# Altium schematic symbol library Schlib_MolexConnectors.SchLib: 61 symbols
Pins are listed as number, name and electrical type; pins without a type are passive.

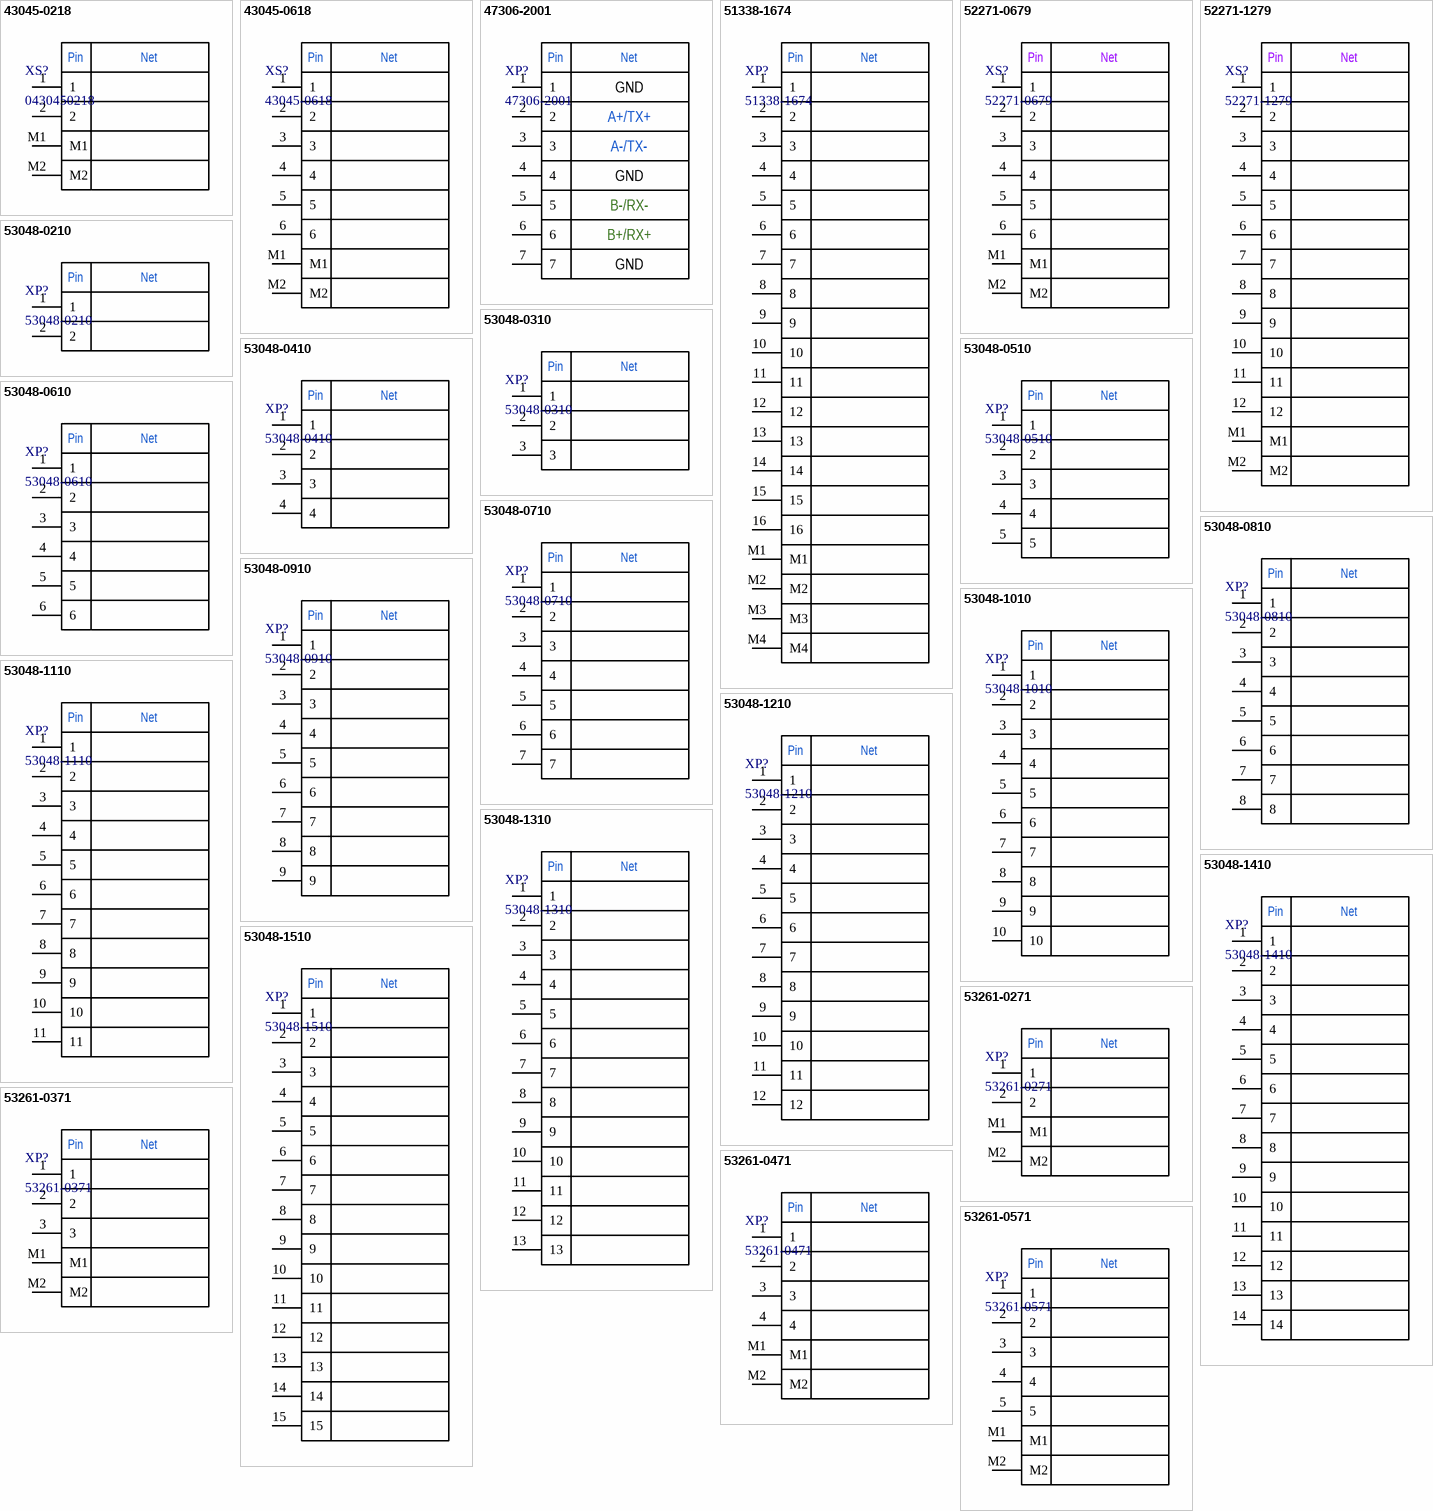
[diagram p0: symbols 43045-0218 to 53261-0571]

## 43045-0218
designator XS?, comment 0430450218
Micro-Fit 3.0 Vertical Header, 3.00mm Pitch; Manufacturer: Molex; Part Number: 0430450218
footprint 43045-0218
pins: 1, 2, M1, M2
text: Pin; Net

## 43045-0618
designator XS?
Micro-Fit 3.0 Vertical Header, 3.00mm Pitch; Manufacturer: Molex; Part Number: 43045-0618
footprint 43045-0618
pins: 1, 2, 3, 4, 5, 6, M1, M2
text: Pin; Net

## 47306-2001
designator XP?
SATA 7-pin; Manufacturer: Molex; Part Number: 47306-2001
footprint 47306-2001
pins: 1, 2, 3, 4, 5, 6, 7
text: Pin; Net; GND; A+/TX+; A-/TX-; B-/RX-; B+/RX+

## 51338-1674
designator XP?
0.4 B-TO-B CONN. H = 1.5 / 2.0; Manufacturer: Molex; Part Number: 51338-1674
footprint 51338-1674
pins: 1, 2, 3, 4, 5, 6, 7, 8, 9, 10, 11, 12, 13, 14, 15, 16, M1, M2, M3, M4
text: Pin; Net

## 52271-0679
designator XS?
FFC/FPC Connector, 1.00mm Pitch, 3.00mm Height, 6 Circuits, Tin-Bismuth Plating; Manufacturer: Molex; Part Number: 52271-0679
footprint 52271-0679 (FFC/FPC Connector, 1.00mm Pitch, Slider Series, Right-Angle, Bottom Contact, 3.00mm Height, 6 Circuits, Tin-Bismuth Plating)
pins: 1, 2, 3, 4, 5, 6, M1, M2
text: Pin; Net

## 52271-1279
designator XS?
FFC/FPC Connector, 1.00mm Pitch, 3.00mm Height, 12 Circuits, Tin-Bismuth Plating; Manufacturer: Molex; Part Number: 52271-1279
footprint 52271-1279 (FFC/FPC Connector, 1.00mm Pitch, Slider Series, Right-Angle, Bottom Contact, 3.00mm Height, 6 Circuits, Tin-Bismuth Plating)
pins: 1, 2, 3, 4, 5, 6, 7, 8, 9, 10, 11, 12, M1, M2
text: Pin; Net

## 53048-0210
designator XP?
1.25mm Pitch, PicoBlade PCB Header; Manufacturer: Molex; Part Number: 53048-0210
footprint 53048-0210
pins: 1, 2
text: Pin; Net

## 53048-0310
designator XP?
1.25mm Pitch, PicoBlade PCB Header; Manufacturer: Molex; Part Number: 53048-0310
footprint 53048-0310
pins: 1, 2, 3
text: Pin; Net

## 53048-0410
designator XP?
1.25mm Pitch, PicoBlade PCB Header; Manufacturer: Molex; Part Number: 53048-0410
footprint 53048-0410
pins: 1, 2, 3, 4
text: Pin; Net

## 53048-0510
designator XP?
1.25mm Pitch, PicoBlade PCB Header; Manufacturer: Molex; Part Number: 53048-0510
footprint 53048-0510
pins: 1, 2, 3, 4, 5
text: Pin; Net

## 53048-0610
designator XP?
1.25mm Pitch, PicoBlade PCB Header; Manufacturer: Molex; Part Number: 53048-0610
footprint 53048-0610
pins: 1, 2, 3, 4, 5, 6
text: Pin; Net

## 53048-0710
designator XP?
1.25mm Pitch, PicoBlade PCB Header; Manufacturer: Molex; Part Number: 53048-0710
footprint 53048-0710
pins: 1, 2, 3, 4, 5, 6, 7
text: Pin; Net

## 53048-0810
designator XP?
1.25mm Pitch, PicoBlade PCB Header; Manufacturer: Molex; Part Number: 53048-0810
footprint 53048-0810
pins: 1, 2, 3, 4, 5, 6, 7, 8
text: Pin; Net

## 53048-0910
designator XP?
1.25mm Pitch, PicoBlade PCB Header; Manufacturer: Molex; Part Number: 53048-0910
footprint 53048-0910
pins: 1, 2, 3, 4, 5, 6, 7, 8, 9
text: Pin; Net

## 53048-1010
designator XP?
1.25mm Pitch, PicoBlade PCB Header; Manufacturer: Molex; Part Number: 53048-1010
footprint 53048-1010
pins: 1, 2, 3, 4, 5, 6, 7, 8, 9, 10
text: Pin; Net

## 53048-1110
designator XP?
1.25mm Pitch, PicoBlade PCB Header; Manufacturer: Molex; Part Number: 53048-1110
footprint 53048-1110
pins: 1, 2, 3, 4, 5, 6, 7, 8, 9, 10, 11
text: Pin; Net

## 53048-1210
designator XP?
1.25mm Pitch, PicoBlade PCB Header; Manufacturer: Molex; Part Number: 53048-1210
footprint 53048-1210
pins: 1, 2, 3, 4, 5, 6, 7, 8, 9, 10, 11, 12
text: Pin; Net

## 53048-1310
designator XP?
1.25mm Pitch, PicoBlade PCB Header; Manufacturer: Molex; Part Number: 53048-1310
footprint 53048-1310
pins: 1, 2, 3, 4, 5, 6, 7, 8, 9, 10, 11, 12, 13
text: Pin; Net

## 53048-1410
designator XP?
1.25mm Pitch, PicoBlade PCB Header; Manufacturer: Molex; Part Number: 53048-1410
footprint 53048-1410
pins: 1, 2, 3, 4, 5, 6, 7, 8, 9, 10, 11, 12, 13, 14
text: Pin; Net

## 53048-1510
designator XP?
1.25mm Pitch, PicoBlade PCB Header; Manufacturer: Molex; Part Number: 53048-1510
footprint 53048-1510
pins: 1, 2, 3, 4, 5, 6, 7, 8, 9, 10, 11, 12, 13, 14, 15
text: Pin; Net

## 53261-0271
designator XP?
1.25mm Pitch, PicoBlade PCB Header; Manufacturer: Molex; AltManufacturer: Connfly; Alternative: DS1020-02-02MVT1R; Part Number: 53261-0271
footprint 53261-0271
pins: 1, 2, M1, M2
text: Pin; Net

## 53261-0371
designator XP?
1.25mm Pitch, PicoBlade PCB Header; Manufacturer: Molex; AltManufacturer: Connfly; Alternative: DS1020-02-03MVT1R; Part Number: 53261-0371
footprint 53261-0371
pins: 1, 2, 3, M1, M2
text: Pin; Net

## 53261-0471
designator XP?
1.25mm Pitch, PicoBlade PCB Header; Manufacturer: Molex; AltManufacturer: Connfly; Alternative: DS1020-02-04MVT1R; Part Number: 53261-0471
footprint 53261-0471
pins: 1, 2, 3, 4, M1, M2
text: Pin; Net

## 53261-0571
designator XP?
1.25mm Pitch, PicoBlade PCB Header; Manufacturer: Molex; AltManufacturer: Connfly; Alternative: DS1020-02-05MVT1R; Part Number: 53261-0571
footprint 53261-0571
pins: 1, 2, 3, 4, 5, M1, M2
text: Pin; Net

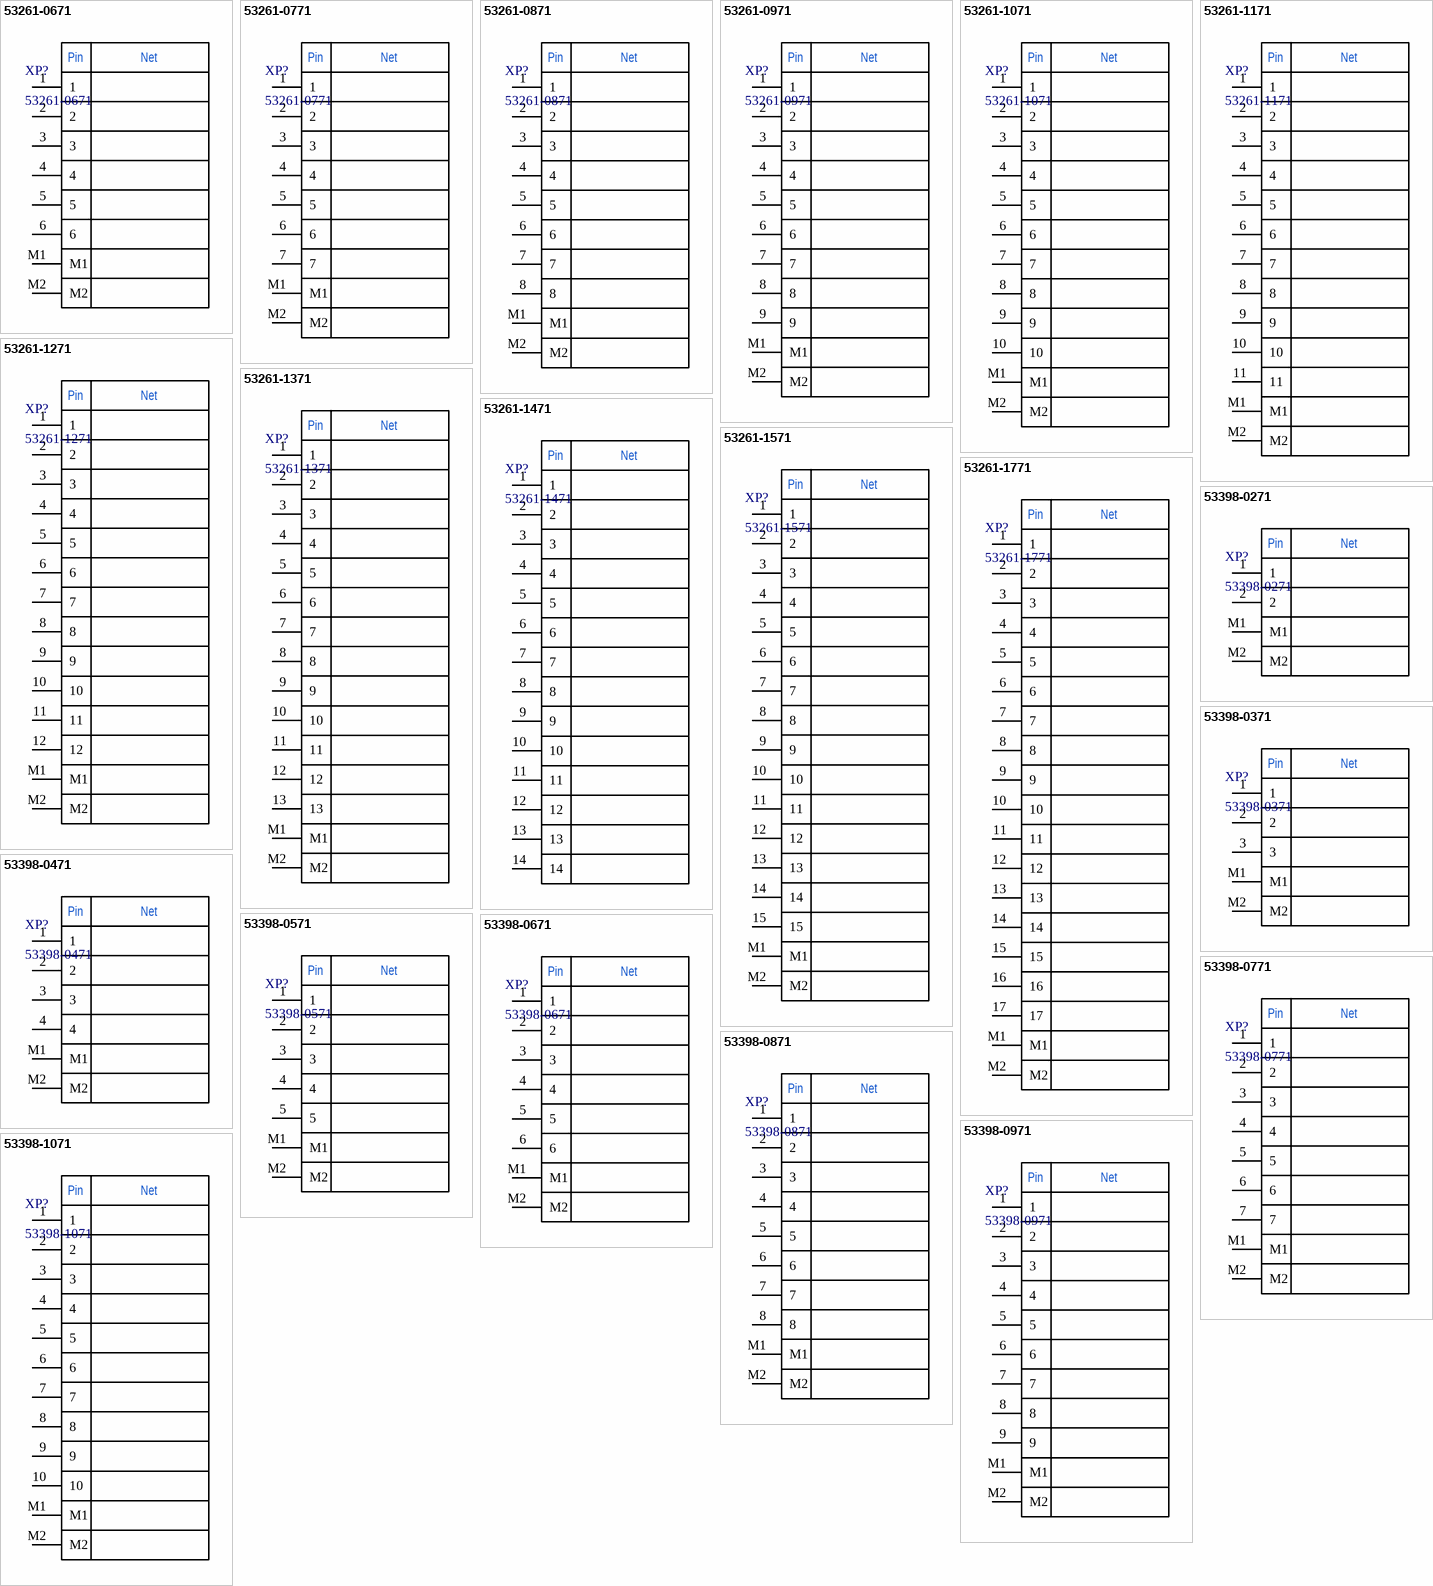
[diagram p1: symbols 53261-0671 to 53398-1071]

## 53261-0671
designator XP?
1.25mm Pitch, PicoBlade PCB Header; Manufacturer: Molex; AltManufacturer: Connfly; Alternative: DS1020-02-06MVT1R; Part Number: 53261-0671
footprint 53261-0671
pins: 1, 2, 3, 4, 5, 6, M1, M2
text: Pin; Net

## 53261-0771
designator XP?
1.25mm Pitch, PicoBlade PCB Header; Manufacturer: Molex; AltManufacturer: Connfly; Alternative: DS1020-02-07MVT1R; Part Number: 53261-0771
footprint 53261-0771
pins: 1, 2, 3, 4, 5, 6, 7, M1, M2
text: Pin; Net

## 53261-0871
designator XP?
1.25mm Pitch, PicoBlade PCB Header; Manufacturer: Molex; AltManufacturer: Connfly; Alternative: DS1020-02-08MVT1R; Part Number: 53261-0871
footprint 53261-0871
pins: 1, 2, 3, 4, 5, 6, 7, 8, M1, M2
text: Pin; Net

## 53261-0971
designator XP?
1.25mm Pitch, PicoBlade PCB Header; Manufacturer: Molex; Part Number: 53261-0971
footprint 53261-0971
pins: 1, 2, 3, 4, 5, 6, 7, 8, 9, M1, M2
text: Pin; Net

## 53261-1071
designator XP?
1.25mm Pitch, PicoBlade PCB Header; Manufacturer: Molex; AltManufacturer: Connfly; Alternative: DS1020-02-10MVT1R; Part Number: 53261-1071
footprint 53261-1071
pins: 1, 2, 3, 4, 5, 6, 7, 8, 9, 10, M1, M2
text: Pin; Net

## 53261-1171
designator XP?
1.25mm Pitch, PicoBlade PCB Header; Manufacturer: Molex; Part Number: 53261-1171
footprint 53261-1171
pins: 1, 2, 3, 4, 5, 6, 7, 8, 9, 10, 11, M1, M2
text: Pin; Net

## 53261-1271
designator XP?
1.25mm Pitch, PicoBlade PCB Header; Manufacturer: Molex; AltManufacturer: Connfly; Alternative: DS1020-02-12MVT1R; Part Number: 53261-1271
footprint 53261-1271
pins: 1, 2, 3, 4, 5, 6, 7, 8, 9, 10, 11, 12, M1, M2
text: Pin; Net

## 53261-1371
designator XP?
1.25mm Pitch, PicoBlade PCB Header; Manufacturer: Molex; Part Number: 53261-1371
footprint 53261-1371
pins: 1, 2, 3, 4, 5, 6, 7, 8, 9, 10, 11, 12, 13, M1, M2
text: Pin; Net

## 53261-1471
designator XP?
1.25mm Pitch, PicoBlade PCB Header; Manufacturer: Molex; Part Number: 53261-1471
footprint 53261-1471
pins: 1, 2, 3, 4, 5, 6, 7, 8, 9, 10, 11, 12, 13, 14
text: Pin; Net

## 53261-1571
designator XP?
1.25mm Pitch, PicoBlade PCB Header; Manufacturer: Molex; Part Number: 53261-1571
footprint 53261-1571
pins: 1, 2, 3, 4, 5, 6, 7, 8, 9, 10, 11, 12, 13, 14, 15, M1, M2
text: Pin; Net

## 53261-1771
designator XP?
1.25mm Pitch, PicoBlade PCB Header; Manufacturer: Molex; Part Number: 53261-1771
footprint 53261-1771
pins: 1, 2, 3, 4, 5, 6, 7, 8, 9, 10, 11, 12, 13, 14, 15, 16, 17, M1, M2
text: Pin; Net

## 53398-0271
designator XP?
1.25mm Pitch, PicoBlade PCB Header; Manufacturer: Molex; Part Number: 53398-0271
footprint 53398-0271
pins: 1, 2, M1, M2
text: Pin; Net

## 53398-0371
designator XP?
1.25mm Pitch, PicoBlade PCB Header; Manufacturer: Molex; Part Number: 53398-0371
footprint 53398-0371
pins: 1, 2, 3, M1, M2
text: Pin; Net

## 53398-0471
designator XP?
1.25mm Pitch, PicoBlade PCB Header; Manufacturer: Molex; Part Number: 53398-0471
footprint 53398-0471
pins: 1, 2, 3, 4, M1, M2
text: Pin; Net

## 53398-0571
designator XP?
1.25mm Pitch, PicoBlade PCB Header; Manufacturer: Molex; Part Number: 53398-0571
footprint 53398-0571
pins: 1, 2, 3, 4, 5, M1, M2
text: Pin; Net

## 53398-0671
designator XP?
1.25mm Pitch, PicoBlade PCB Header; Manufacturer: Molex; Part Number: 53398-0671
footprint 53398-0671
pins: 1, 2, 3, 4, 5, 6, M1, M2
text: Pin; Net

## 53398-0771
designator XP?
1.25mm Pitch, PicoBlade PCB Header; Manufacturer: Molex; Part Number: 53398-0771
footprint 53398-0771
pins: 1, 2, 3, 4, 5, 6, 7, M1, M2
text: Pin; Net

## 53398-0871
designator XP?
1.25mm Pitch, PicoBlade PCB Header; Manufacturer: Molex; Part Number: 53398-0871
footprint 53398-0871
pins: 1, 2, 3, 4, 5, 6, 7, 8, M1, M2
text: Pin; Net

## 53398-0971
designator XP?
1.25mm Pitch, PicoBlade PCB Header; Manufacturer: Molex; Part Number: 53398-0971
footprint 53398-0971
pins: 1, 2, 3, 4, 5, 6, 7, 8, 9, M1, M2
text: Pin; Net

## 53398-1071
designator XP?
1.25mm Pitch, PicoBlade PCB Header; Manufacturer: Molex; Part Number: 53398-1071
footprint 53398-1071
pins: 1, 2, 3, 4, 5, 6, 7, 8, 9, 10, M1, M2
text: Pin; Net

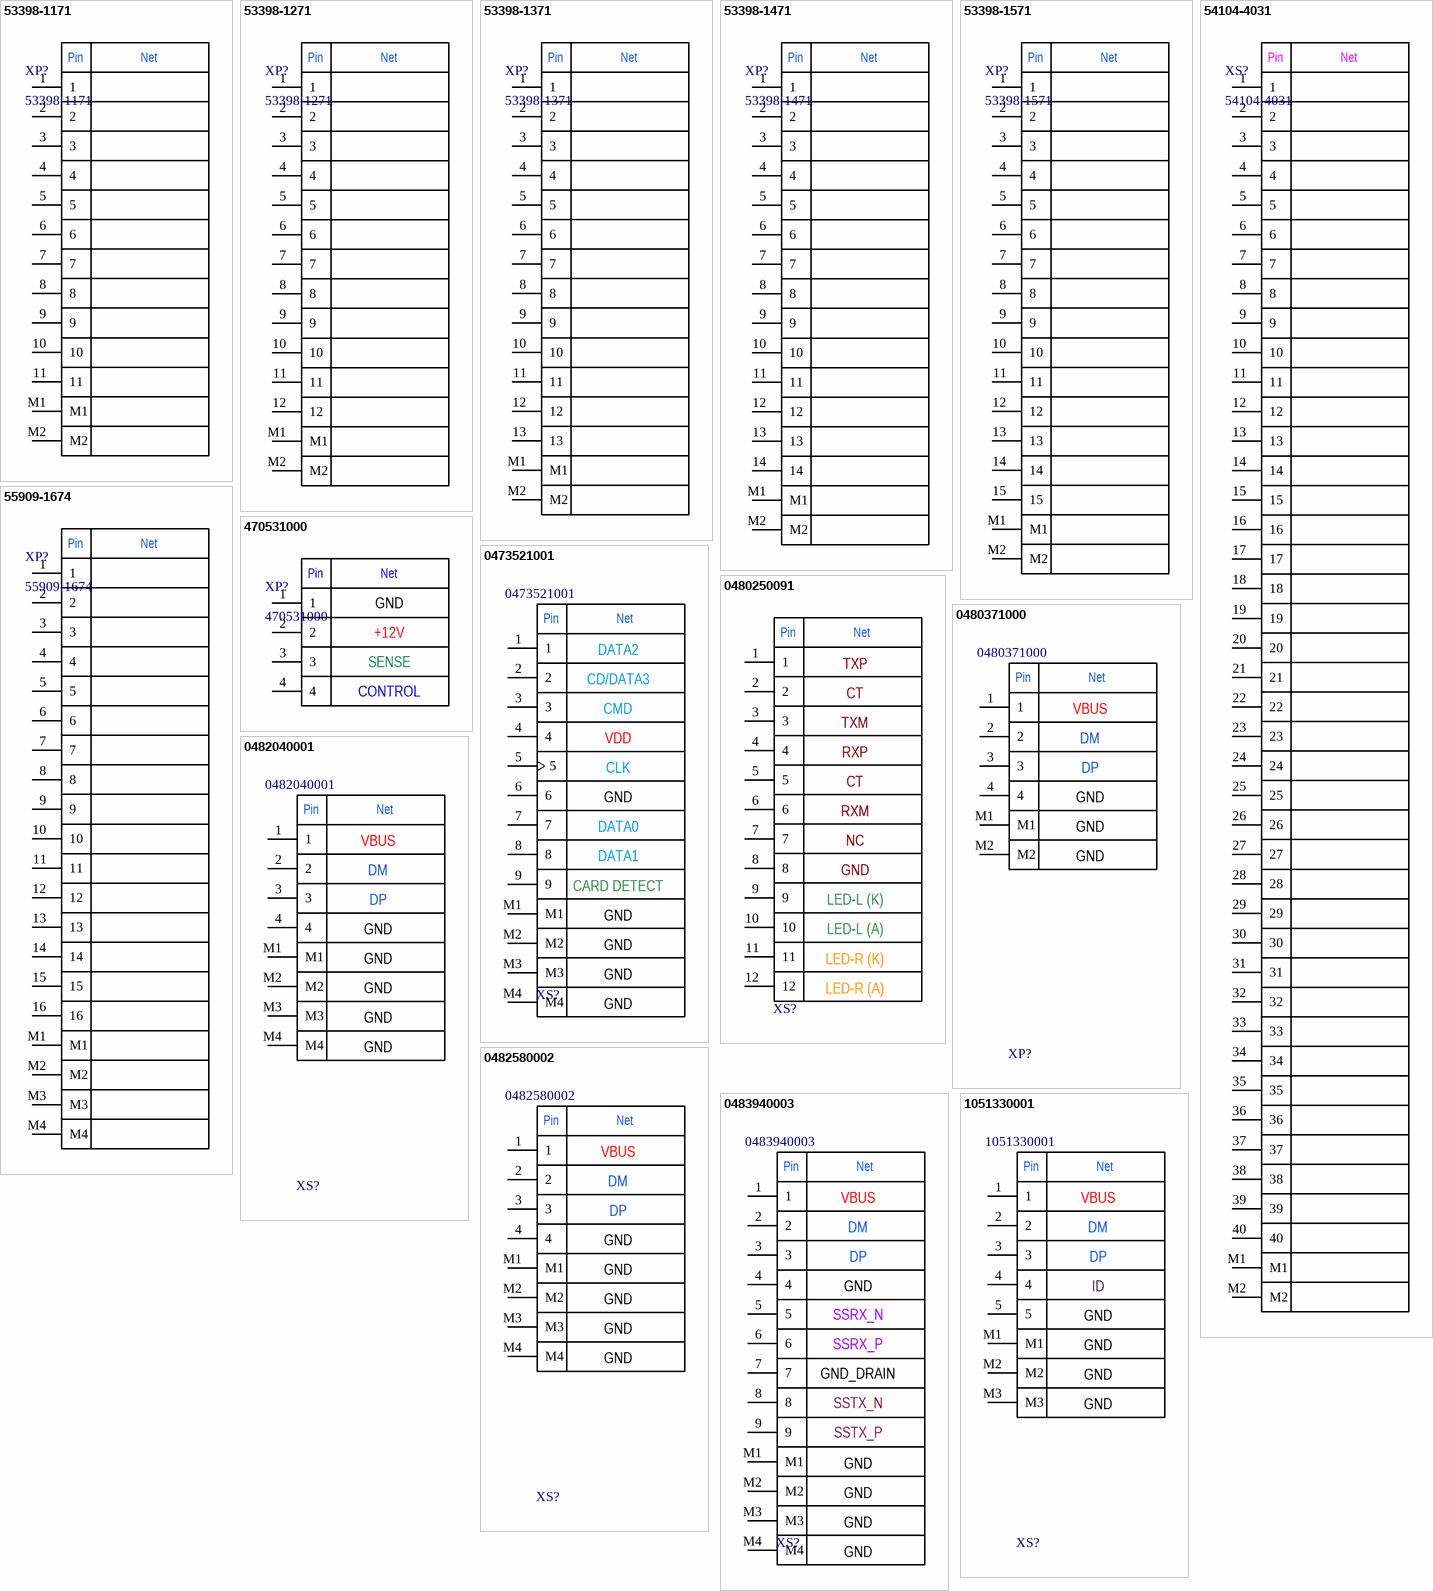
[diagram p2: symbols 53398-1171 to 1051330001]

## 53398-1171
designator XP?
1.25mm Pitch, PicoBlade PCB Header; Manufacturer: Molex; Part Number: 53398-1171
footprint 53398-1171
pins: 1, 2, 3, 4, 5, 6, 7, 8, 9, 10, 11, M1, M2
text: Pin; Net

## 53398-1271
designator XP?
1.25mm Pitch, PicoBlade PCB Header; Manufacturer: Molex; Part Number: 53398-1271
footprint 53398-1271
pins: 1, 2, 3, 4, 5, 6, 7, 8, 9, 10, 11, 12, M1, M2
text: Pin; Net

## 53398-1371
designator XP?
1.25mm Pitch, PicoBlade PCB Header; Manufacturer: Molex; Part Number: 53398-1371
footprint 53398-1371
pins: 1, 2, 3, 4, 5, 6, 7, 8, 9, 10, 11, 12, 13, M1, M2
text: Pin; Net

## 53398-1471
designator XP?
1.25mm Pitch, PicoBlade PCB Header; Manufacturer: Molex; Part Number: 53398-1471
footprint 53398-1471
pins: 1, 2, 3, 4, 5, 6, 7, 8, 9, 10, 11, 12, 13, 14, M1, M2
text: Pin; Net

## 53398-1571
designator XP?
1.25mm Pitch, PicoBlade PCB Header; Manufacturer: Molex; Part Number: 53398-1571
footprint 53398-1571
pins: 1, 2, 3, 4, 5, 6, 7, 8, 9, 10, 11, 12, 13, 14, 15, M1, M2
text: Pin; Net

## 54104-4031
designator XS?
FFC/FPC Connector, 0.50mm Pitch, Slider Series, 2.00mm Height, 40 Circuits, Gold Plating; Manufacturer: Molex; Part Number: 54104-4031
footprint 54104-4031 (FFC/FPC Connector, 0.50mm Pitch, Slider Series Right-Angle, Top Contact, 2.00mm Height, 40 Circuits, Gold Plating)
pins: 1, 2, 3, 4, 5, 6, 7, 8, 9, 10, 11, 12, 13, 14, 15, 16, 17, 18, 19, 20, 21, 22, 23, 24, 25, 26, 27, 28, 29, 30, 31, 32, 33, 34, 35, 36, 37, 38, 39, 40, M1, M2
text: Pin; Net

## 55909-1674
designator XP?
0.4 B-TO-B CONN. H = 1.5 / 2.0; Manufacturer: Molex; Part Number: 55909-1674
footprint 55909-1674
pins: 1, 2, 3, 4, 5, 6, 7, 8, 9, 10, 11, 12, 13, 14, 15, 16, M1, M2, M3, M4
text: Pin; Net

## 470531000
designator XP?
KK 254 Vertical Header, with Friction Lock, 4 Circuits, Length 3.50mm; Manufacturer: Molex; Part Number: 470531000
footprint 0470531000
pins: 1, 2, 3, 4
text: Pin; Net; GND; +12V; SENSE; CONTROL

## 0473521001
designator XS?
SD card socket; Manufacturer: Molex; Part Number: 0473521001; Author: Sklyarov
footprint 473521001 (SD Card socket)
pins: 1, 2, 3, 4, 5, 6, 7, 8, 9, M1, M2, M3, M4
text: Pin; Net; DATA2; CD/DATA3; CMD; VDD; CLK; GND; DATA0; DATA1; CARD DETECT

## 0480250091
designator XS?  (value not drawn)
Modular Jack, Right-Angle, 10/100, with Integrated Magnetic and LED; Manufacturer: Molex; Part Number: 0480250091; Author: Sklyarov
footprint 0480250091 (Ethernet RJ-45 Socket)
pins: 1, 2, 3, 4, 5, 6, 7, 8, 9, 10, 11, 12
text: Pin; Net; TXP; CT; TXM; RXP; RXM; NC; GND; LED-L (K); LED-L (A); LED-R (K); LED-R (A)

## 0480371000
designator XP?
USB A  Connector; Manufacturer: Molex; Part Number: 0480371000; Author: Sklyarov
footprint 0480371000 (USB Type A Connector)
pins: 1, 2, 3, 4, M1, M2
text: Pin; Net; VBUS; DM; DP; GND

## 0482040001
designator XS?
USB A Up-Right Reverse Connector; Manufacturer: Molex; Part Number: 0482040001; Author: Sklyarov
footprint 0482040001 (USB Type A Connector)
pins: 1, 2, 3, 4, M1, M2, M3, M4
text: Pin; Net; VBUS; DM; DP; GND

## 0482580002
designator XS?
USB Type A Sink Reverse Type; Manufacturer: Molex; Part Number: 0482580002; Author: Sklyarov
footprint 0482580002 (USB Type A Connector)
pins: 1, 2, 3, 4, M1, M2, M3, M4
text: Pin; Net; VBUS; DM; DP; GND

## 0483940003
designator XS?
USB 3.0 Type A Sink Reverse Type; Manufacturer: Molex; Part Number: 0483940003; Author: Sklyarov
pins: 1, 2, 3, 4, 5, 6, 7, 8, 9, M1, M2, M3, M4
text: Pin; Net; VBUS; DM; DP; GND; SSRX_N; SSRX_P; GND_DRAIN; SSTX_N; SSTX_P

## 1051330001
designator XS?
Micro-USB B Receptacle, Vertical, Surface Mount, 6.70mm Height, 2.30mm Solder Tabs,; Manufacturer: Molex; Part Number: 1051330001; Author: Sklyarov
footprint 1051330001 (Micro-USB B Receptacle, Vertical, Surface Mount)
pins: 1, 2, 3, 4, 5, M1, M2, M3
text: Pin; Net; VBUS; DM; DP; ID; GND

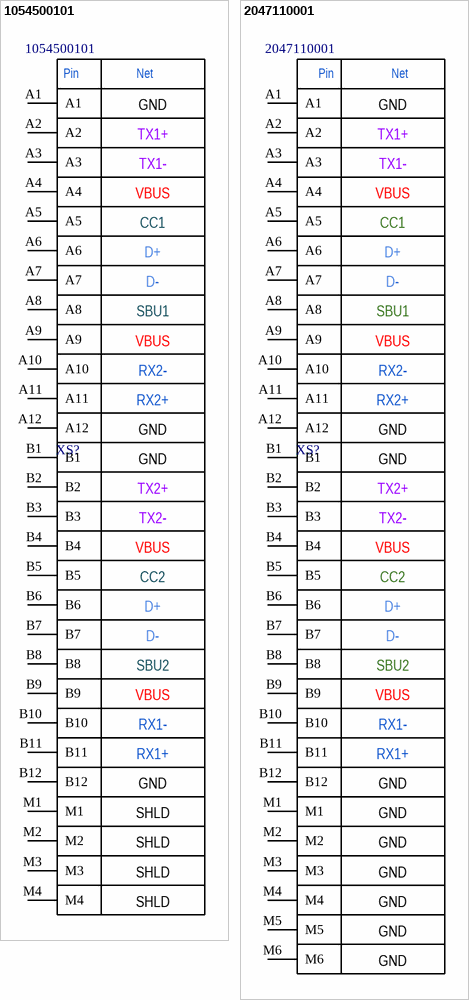
[diagram p3: symbols 1054500101 to 2047110001]

## 1054500101
designator XS?
USB Shielded I/O Receptacle, Type C, Right-Angle, Top Mount, Surface Mount; Manufacturer: Molex; Part Number: 1054500101; Author: Sklyarov
footprint 1054500101 (USB TYPE C)
pins: A1, A2, A3, A4, A5, A6, A7, A8, A9, A10, A11, A12, B1, B2, B3, B4, B5, B6, B7, B8, B9, B10, B11, B12, M1, M2, M3, M4
text: Pin; Net; GND; TX1+; TX1-; VBUS; CC1; D+; D-; SBU1; RX2-; RX2+; TX2+; TX2-; CC2; SBU2; RX1-; RX1+; SHLD

## 2047110001
designator XS?
USB VERTICAL TYPE C 3.1; Manufacturer: Molex; Part Number: 2047110001; Author: Sklyarov
footprint 2047110001 (USB VERTICAL TYPE C 3.1)
pins: A1, A2, A3, A4, A5, A6, A7, A8, A9, A10, A11, A12, B1, B2, B3, B4, B5, B6, B7, B8, B9, B10, B11, B12, M1, M2, M3, M4, M5, M6
text: Pin; Net; GND; TX1+; TX1-; VBUS; CC1; D+; D-; SBU1; RX2-; RX2+; TX2+; TX2-; CC2; SBU2; RX1-; RX1+